# Altium footprint library L_SDR0604.PcbLib: 1 footprints
Each footprint in its own frame and in the unit in brackets; x right, y up, seen from the top. Pads: shape width x height; smd on the part's side, far side on the other; paste and mask are expansions set on the pad; w line width, h text height; cw(c..) or ccw(c..) is an arc to the next point about the centre after c.
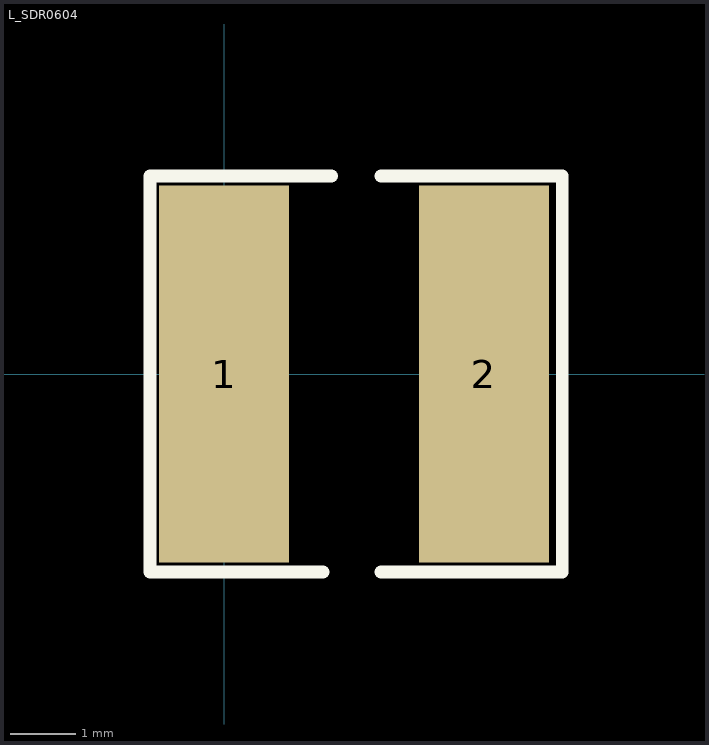
[diagram p0: the footprint, top view; thin cyan lines are the x and y axes]

## L_SDR0604 [mm] "Bourns SMD inductor SRR0906"
height 5
pads (2):
  rect 2x5.8 smd: 1(0,0) 2(4,0)
Top Overlay:
  lines w0.2: 1.524,-3.048 -1.143,-3.048 -1.143,3.048 1.651,3.048 ; 2.413,-3.048 5.207,-3.048 5.207,3.048 2.413,3.048